# EAGLE library part COMPMOD-K554CA3 (library IC)
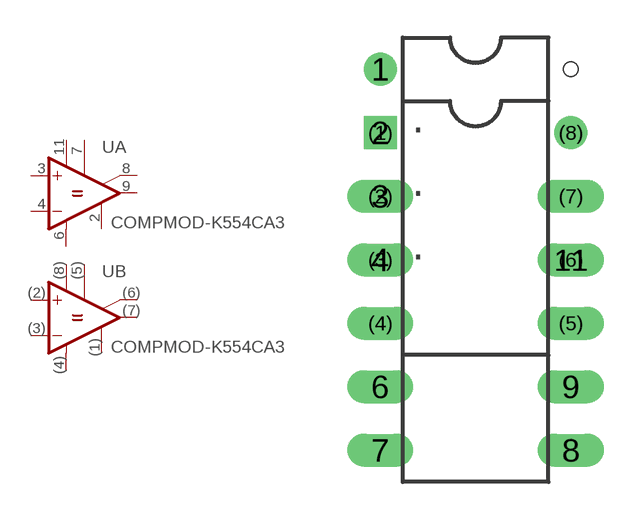
[diagram p2: symbol with the pads of DIL_A(14); footprint DIL_A(14)]

Designator prefix -; gates A=LM311 B=LM311

## COMPMOD-K554CA3"  [DIL_A(14)]
2  A:GND  pas
3  A:+IN  in
4  A:-IN  in
6  A:V-  pwr
7  A:ON  pas
8  A:ON/STR  pas
9  A:OUT  out
11  A:V+  pwr
(1)  B:GND  pas
(2)  B:+IN  in
(3)  B:-IN  in
(4)  B:V-  pwr
(5)  B:ON  pas
(6)  B:ON/STR  pas
(7)  B:OUT  out
(8)  B:V+  pwr

## Footprint DIL_A(14) (pad centres in mm)
Dual In Line Package
drill 0.813: 1 -3.81,7.62; (8) 3.81,5.08
drill 0.813 square: 2 -3.81,5.08; (1) -3.81,5.08
drill 0.813 long: 3 -3.81,2.54; 4 -3.81,0; 6 -3.81,-5.08; 7 -3.81,-7.62; 8 3.81,-7.62; 9 3.81,-5.08; 11 3.81,0; (2) -3.81,2.54; (3) -3.81,0; (4) -3.81,-2.54; (5) 3.81,-2.54; (6) 3.81,0; (7) 3.81,2.54
hole 0.6 at 3.81,7.62